# Altium footprint library SX127x_e243v03a.PcbLib: 62 footprints (part 4 of 4)
Each footprint in its own frame and in the unit in brackets; x right, y up, seen from the top. Pads: shape width x height; smd on the part's side, far side on the other; paste and mask are expansions set on the pad; w line width, h text height; cw(c..) or ccw(c..) is an arc to the next point about the centre after c.
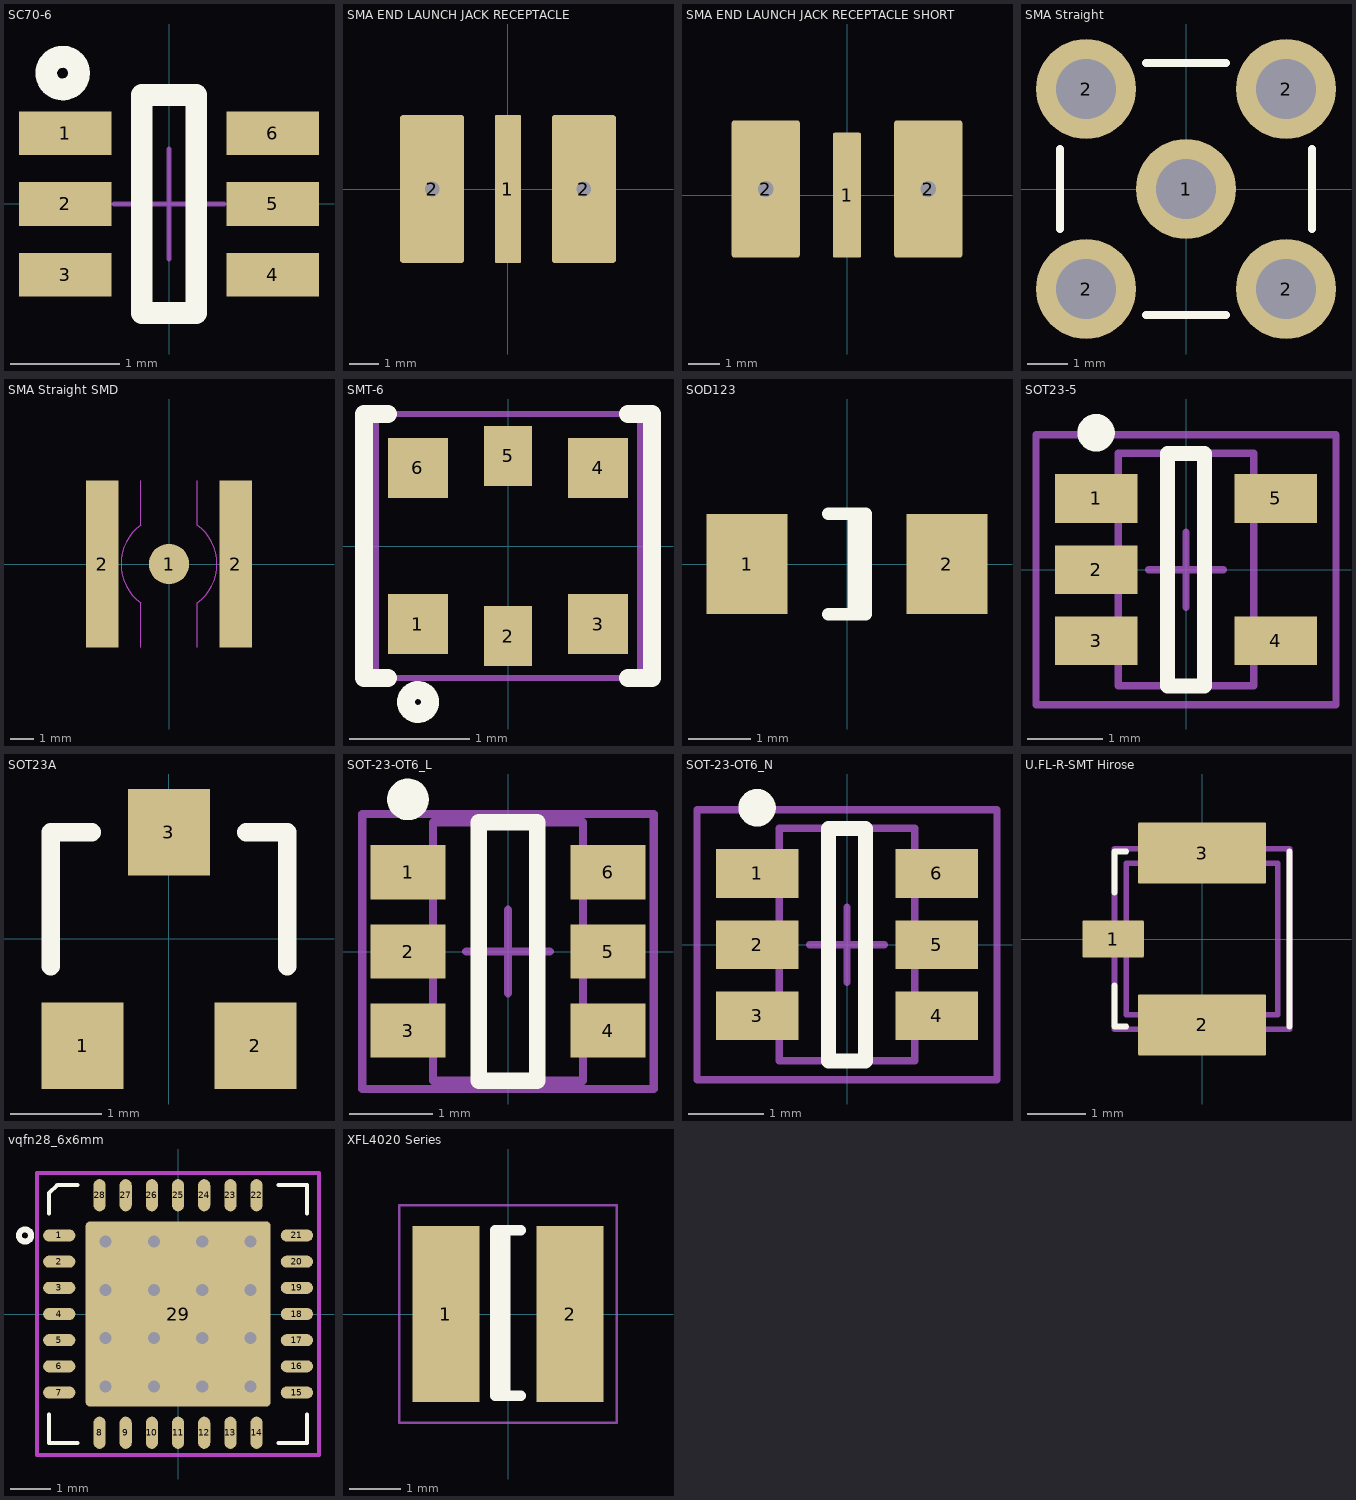
[diagram p3: the footprints below, top view; thin cyan lines are the x and y axes]

## SC70-6 [mm] "SC70 6-Leads, Body 2.0x1.25mm, Pitch 0.65mm"
height 1.45
pads (6):
  rect 0.85x0.4 smd mask+0.05: 1(-0.95,0.65) 2(-0.95,0) 3(-0.95,-0.65) 4(0.95,-0.65) 5(0.95,0) 6(0.95,0.65)
Top Overlay:
  circle w0.2: c-0.975,1.2 r0.15
  lines w0.2: -0.25,-1 -0.25,1 0.25,1 0.25,-1 -0.25,-1
Mechanical 15:
  lines w0.05: -0.5,0 0.5,0 ; 0,-0.5 0,0.5
3D body: height 1.45, standoff 0, extent -0.625,-1 0.625,1

## SMA END LAUNCH JACK RECEPTACLE [mm] "SMA Connector - End Launch Jack Receptacle"
height 8
pads (3):
  rrect10% 0.9x5.08 smd paste+0 mask+0.05: 1(0,0)
  rrect10% 2.2x5.08 hole 0.5 mask+0.05: 2(-2.6,0) 2(2.6,0)

## SMA END LAUNCH JACK RECEPTACLE SHORT [mm] "SMA Connector - End Launch Jack Receptacle - Short"
height 8
pads (3):
  rrect10% 0.9x4 smd paste+0 mask+0.05: 1(0,0)
  rrect10% 2.2x4.4 hole 0.5 mask+0.05: 2(-2.6,0.2) 2(2.6,0.2)

## SMA Straight [mm] "SMA Connector; Straight"
height 10
pads (5):
  round 2.5 hole 1.5 paste+0 mask+0.1: 1(0,0) 2(-2.5,-2.5) 2(-2.5,2.5) 2(2.5,-2.5) 2(2.5,2.5)
Top Overlay:
  lines w0.2: -3.15,-1 -3.15,1 ; -1,-3.15 1,-3.15 ; -1,3.15 1,3.15 ; 3.15,-1 3.15,1
Mechanical 1:
  circle w0.025: c0,0 r0.2

## SMA Straight SMD [mm] "SMA Connector; Straight; SMD"
height 10
pads (3):
  round 1.73 smd paste+0 mask+0.05: 1(0,0)
  rect 1.4x7.12 smd paste+0 mask+0.05: 2(-2.85,0) 2(2.85,0)
Top Paste:
  region: -1.24,3.56 -1.24,1.71 -2.24,1.71 -2.24,3.56
  region: 2.25,3.56 2.25,1.71 1.25,1.71 1.25,3.56
  region: 2.25,-1.7 2.25,-3.55 1.25,-3.55 1.25,-1.7
  region: -1.25,-1.7 -1.25,-3.55 -2.25,-3.55 -2.25,-1.7
Top Solder:
  region: -1.21,-4 -3.8,-4 -3.8,-3.55 -1.21,-3.55
  region: -3.5,4 -3.9,4 -3.9,-4 -3.5,-4
  region: -3.8,3.55 -3.8,4 -1.2,4 -1.2,3.55
  region: -2.13,-3.61 -1.21,-3.61 -1.21,-1.66 -2.13,-0.8
  region: -2.12,3.61 -1.2,3.61 -1.2,1.66 -2.12,0.8
  region: 2.13,3.61 1.21,3.61 1.21,1.66 2.13,0.8
  region: 2.13,-3.61 1.21,-3.61 1.21,-1.66 2.13,-0.8
  region: 3.8,-4 1.21,-4 1.21,-3.55 3.8,-3.55
  region: 3.9,4 3.5,4 3.5,-4 3.9,-4
  region: 1.21,3.55 1.21,4 3.8,4 3.8,3.55
Mechanical 12 keep-out:
  lines w0.05: -1.212,-1.653 cw(c0,0) -1.208,1.657 ; -1.21,-3.565 -1.21,-1.66 ; -1.2,1.66 -1.2,3.565 ; 1.208,-3.558 1.208,-1.657 ccw(c0,0) 1.212,1.653 ; 1.21,1.66 1.21,3.56

## SMT-6 [mm] "SMT-6 Package"
height 1.25
pads (6):
  rect 0.5x0.5 smd mask+0.05: 1(-0.75,-0.65) 3(0.75,-0.65) 4(0.75,0.65) 6(-0.75,0.65)
  rect 0.4x0.5 smd mask+0.05: 2(0,-0.75) 5(0,0.75)
Top Overlay:
  circle w0.15: c-0.75,-1.3 r0.1
  lines w0.15: -1,-1.1 -1.2,-1.1 -1.2,1.1 -1,1.1 ; 1,-1.1 1.2,-1.1 1.2,1.1 1,1.1
Mechanical 15:
  lines w0.05: -1.1,-1.1 -1.1,1.1 1.1,1.1 1.1,-1.1 -1.1,-1.1
3D body: height 1, standoff 0, extent -0.85,-0.85 0.85,0.85

## SOD123 [mm] "SOD123; Chip Diode; Body  2.7 x 1.6 mm (LxW typ)"
height 1.35
pads (2):
  rect 1.3x1.6 smd mask+0.05: 1(-1.6,0) 2(1.6,0)
Top Overlay:
  lines w0.2: -0.3,-0.8 0.3,-0.8 0.3,0.8 -0.3,0.8 ; 0.11,-0.8 0.11,0.8

## SOT23-5 [mm] "SOT23, 5-Leads, Body 2.9x1.6mm, Pitch 0.95mm, Lead Span 2.8mm, IPC Medium Density"
height 1.45
pads (5):
  rect 1.1x0.65 smd mask+0.05: 1(-1.2,0.95) 2(-1.2,0) 3(-1.2,-0.95) 4(1.2,-0.95) 5(1.2,0.95)
Top Overlay:
  circle w0.25: c-1.2,1.825 r0.125
  lines w0.2: -0.25,-1.55 -0.25,1.55 0.25,1.55 0.25,-1.55 -0.25,-1.55
Mechanical 13:
  lines w0.1: -0.9,-1.55 0.9,-1.55 0.9,1.55 -0.9,1.55 -0.9,-1.55
Mechanical 15:
  lines w0.1: -0.5,0 0.5,0 ; 0,-0.5 0,0.5 ; -2,-1.8 2,-1.8 2,1.8 -2,1.8 -2,-1.8
3D body: height 1.45, standoff 0, extent -0.9,-1.55 0.9,1.55

## SOT23A [mm] "SOT-23; 3 Leads; Body 3.0 x 2.5 mm, inc. leads (LxW max)"
height 1.2
pads (3):
  rect 0.9x0.95 smd: 1(-0.95,-1.175) 2(0.95,-1.175) 3(0,1.175)
Top Overlay:
  lines w0.2: -1.3,-0.3 -1.3,1.175 -0.85,1.175 ; 0.85,1.175 1.3,1.175 1.3,-0.3

## SOT-23-OT6_L [mm] "SOT23, 6-Leads, Body 2.9x1.6mm, Pitch 0.95mm, Lead Span 2.7mm, IPC High Density"
height 1.45
pads (6):
  rect 0.9x0.65 smd: 1(-1.2,0.95) 2(-1.2,0) 3(-1.2,-0.95) 4(1.2,-0.95) 5(1.2,0) 6(1.2,0.95)
Top Overlay:
  circle w0.25: c-1.2,1.825 r0.125
  lines w0.2: -0.35,-1.55 0.35,-1.55 0.35,1.55 -0.35,1.55 -0.35,-1.55
Mechanical 13:
  lines w0.1: -0.9,-1.55 -0.9,1.55 0.9,1.55 0.9,-1.55 -0.9,-1.55
Mechanical 15:
  lines w0.1: -0.5,0 0.5,0 ; 0,-0.5 0,0.5 ; -1.75,-1.65 -1.75,1.65 1.75,1.65 1.75,-1.65 -1.75,-1.65
3D body: height 1.45, standoff 0, extent -0.9,-1.55 0.9,1.55

## SOT-23-OT6_N [mm] "SOT23, 6-Leads, Body 2.9x1.6mm, Pitch 0.95mm, Lead Span 2.7mm, IPC Medium Density"
height 1.45
pads (6):
  rect 1.1x0.65 smd: 1(-1.2,0.95) 2(-1.2,0) 3(-1.2,-0.95) 4(1.2,-0.95) 5(1.2,0) 6(1.2,0.95)
Top Overlay:
  circle w0.25: c-1.2,1.825 r0.125
  lines w0.2: -0.25,-1.55 0.25,-1.55 0.25,1.55 -0.25,1.55 -0.25,-1.55
Mechanical 13:
  lines w0.1: -0.9,-1.55 -0.9,1.55 0.9,1.55 0.9,-1.55 -0.9,-1.55
Mechanical 15:
  lines w0.1: -0.5,0 0.5,0 ; 0,-0.5 0,0.5 ; -2,-1.8 -2,1.8 2,1.8 2,-1.8 -2,-1.8
3D body: height 1.45, standoff 0, extent -0.9,-1.55 0.9,1.55

## U.FL-R-SMT Hirose [mm] "Hirose U.FL RF receptacle - U.FL-R-SMT"
height 1.2
pads (3):
  rrect5% 1.05x0.635 smd: 1(-1.525,0)
  rrect5% 2.2x1.05 smd: 2(0,-1.475) 3(0,1.475)
Top Overlay:
  lines w0.1: -1.5,-0.8 -1.5,-1.5 -1.3,-1.5 ; -1.5,0.8 -1.5,1.5 -1.3,1.5 ; 1.5,-1.5 1.5,1.5
Mechanical 13:
  lines w0.1: -1.5,-1.55 1.5,-1.55 1.5,1.55 -1.5,1.55 -1.5,-1.55
Mechanical 15:
  lines w0.1: -1.3,-1.3 1.3,-1.3 1.3,1.3 -1.3,1.3 -1.3,-1.3
3D body: height 16, standoff 1.3, extent -1.5,-1.5 1.5,1.5

## vqfn28_6x6mm [mm] "28 Leads, Body 6.0x6.0mm, Pitch 0.65mm, VQFN28"
height 1
pads (29):
  oval 0.8x0.3 smd mask+0.05: 1(-2.95,1.95) 2(-2.95,1.3) 3(-2.95,0.65) 4(-2.95,0) 5(-2.95,-0.65) 6(-2.95,-1.3) 7(-2.95,-1.95) 15(2.95,-1.95) 16(2.95,-1.3) 17(2.95,-0.65) 18(2.95,0) 19(2.95,0.65) 20(2.95,1.3) 21(2.95,1.95)
  oval 0.3x0.8 smd mask+0.05: 8(-1.95,-2.95) 9(-1.3,-2.95) 10(-0.65,-2.95) 11(0,-2.95) 12(0.65,-2.95) 13(1.3,-2.95) 14(1.95,-2.95) 22(1.95,2.95) 23(1.3,2.95) 24(0.65,2.95) 25(0,2.95) 26(-0.65,2.95) 27(-1.3,2.95) 28(-1.95,2.95)
  rrect5% 4.6x4.6 smd paste-3.3 mask+0.05: 29(0,0)
via 0.6,-1.8 diameter 0.6 hole 0.3
via 1.8,-0.6 diameter 0.6 hole 0.3
via -1.8,1.8 diameter 0.6 hole 0.3
via -1.8,-0.6 diameter 0.6 hole 0.3
via -1.8,0.6 diameter 0.6 hole 0.3
via 0.6,-0.6 diameter 0.6 hole 0.3
via 1.8,-1.8 diameter 0.6 hole 0.3
via -0.6,-1.8 diameter 0.6 hole 0.3
via -1.8,-1.8 diameter 0.6 hole 0.3
via -0.6,1.8 diameter 0.6 hole 0.3
via -0.6,0.6 diameter 0.6 hole 0.3
via -0.6,-0.6 diameter 0.6 hole 0.3
via 0.6,0.6 diameter 0.6 hole 0.3
via 0.6,1.8 diameter 0.6 hole 0.3
via 1.8,1.8 diameter 0.6 hole 0.3
via 1.8,0.6 diameter 0.6 hole 0.3
Top Overlay:
  circle w0.15: c-3.8,1.95 r0.15
  lines w0.1: -3.2,-2.5 -3.2,-3.2 -2.5,-3.2 ; -3.2,2.5 -3.2,3 -3,3.2 -2.5,3.2 ; 2.5,-3.2 3.2,-3.2 3.2,-2.5 ; 2.5,3.2 3.2,3.2 3.2,2.5
Top Paste:
  region: -1.6,-0.8 -1.6,-1.6 -0.8,-1.6 -0.8,-0.8
  region: 0.8,-0.8 0.8,-1.6 1.6,-1.6 1.6,-0.8
  region: -0.4,-0.8 -0.4,-1.6 0.4,-1.6 0.4,-0.8
  region: 0.8,0.4 0.8,-0.4 1.6,-0.4 1.6,0.4
  region: -1.6,1.6 -1.6,0.8 -0.8,0.8 -0.8,1.6
  region: -0.4,1.6 -0.4,0.8 0.4,0.8 0.4,1.6
  region: -1.6,0.4 -1.6,-0.4 -0.8,-0.4 -0.8,0.4
  region: -0.4,0.4 -0.4,-0.4 0.4,-0.4 0.4,0.4
  region: 0.8,1.6 0.8,0.8 1.6,0.8 1.6,1.6
Mechanical 15 keep-out:
  lines w0.1: -3.5,-3.5 -3.5,3.5 3.5,3.5 3.5,-3.5 -3.5,-3.5
3D body: height 1, standoff 0.05, extent -3,-3 3,3

## XFL4020 Series [mm] "Chip SMD component ; Body 4.0 x 4.0 mm (LxW typ)"
height 2.1
pads (2):
  rect 1.3x3.4 smd mask+0.05: 1(-1.2,0) 2(1.2,0)
Top Overlay:
  lines w0.2: -0.056,-1.579 -0.056,1.621 ; 0.25,-1.579 -0.246,-1.579 -0.246,1.621 0.25,1.621
Mechanical 15:
  lines w0.05: -2.1,-2.1 2.1,-2.1 2.1,2.1 -2.1,2.1 -2.1,-2.1